# Altium schematic symbol library SW.SchLib: 4 symbols
Pins are listed as number, name and electrical type; pins without a type are passive.

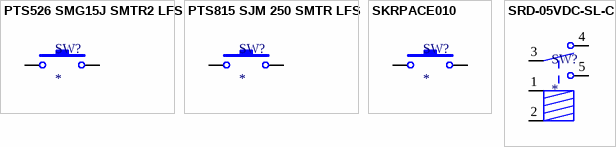
[diagram p0: symbols PTS526 SMG15J SMTR2 LFS to SRD-05VDC-SL-C]

## PTS526 SMG15J SMTR2 LFS
designator SW?
Tactile Switch SPST-NO Top Actuated Surface Mount
footprint PTS526 SMG15J SMTR2 LFS (Tactile Switch SPST-NO Top Actuated Surface Mount)
pins: 1, 2

## PTS815 SJM 250 SMTR LFS
designator SW?
Tactile Switch SPST-NO Top Actuated Surface Mount
footprint PTS815 SJM 250 SMTR LFS (Tactile Switch SPST-NO Top Actuated Surface Mount)
pins: 1, 2

## SKRPACE010
designator SW?
ALPS PUSHBUTTON 2.55N
footprint SKRPACE010 (ALPS SKRP SWITCH)
pins: 1, 2

## SRD-05VDC-SL-C
designator SW?
RELAY SPDT 5V Coil
footprint SRD-05VDC-SL-C (RELAY SPDT 5V Coil)
pins: 1 C1, 2 C2, 3 COM, 4 NC, 5 NO